# EAGLE library part MICRO-SD (library mbed-HDK)
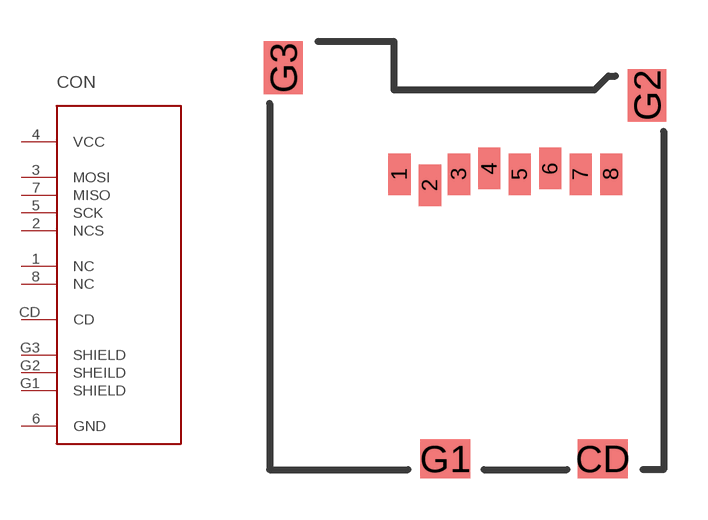
[diagram p40: symbol with the pads of AMPHENOL-101-00660-68-6; footprint AMPHENOL-101-00660-68-6]

Designator prefix CON

## MICRO-SD  [AMPHENOL-101-00660-68-6]
1  NC
2  NCS
3  MOSI
4  VCC
5  SCK
6  GND
7  MISO
8  NC
CD  CD
G1  SHIELD
G2  SHEILD
G3  SHIELD

## Footprint AMPHENOL-101-00660-68-6 (pad centres in mm)
smd 0.8 x 1.5: 1 -2.55,10.7; 2 -1.45,10.3; 3 -0.4,10.7; 4 0.7,10.9; 5 1.8,10.7; 6 2.9,10.9; 7 4,10.7; 8 5.1,10.7
smd 1.8 x 1.4: CD 4.8,0.4; G1 -0.9,0.4
smd 1.4 x 1.9: G2 6.4,13.55; G3 -6.75,14.55